# Altium schematic symbol library Interface.SchLib: 16 symbols
Pins are listed as number, name and electrical type; pins without a type are passive.

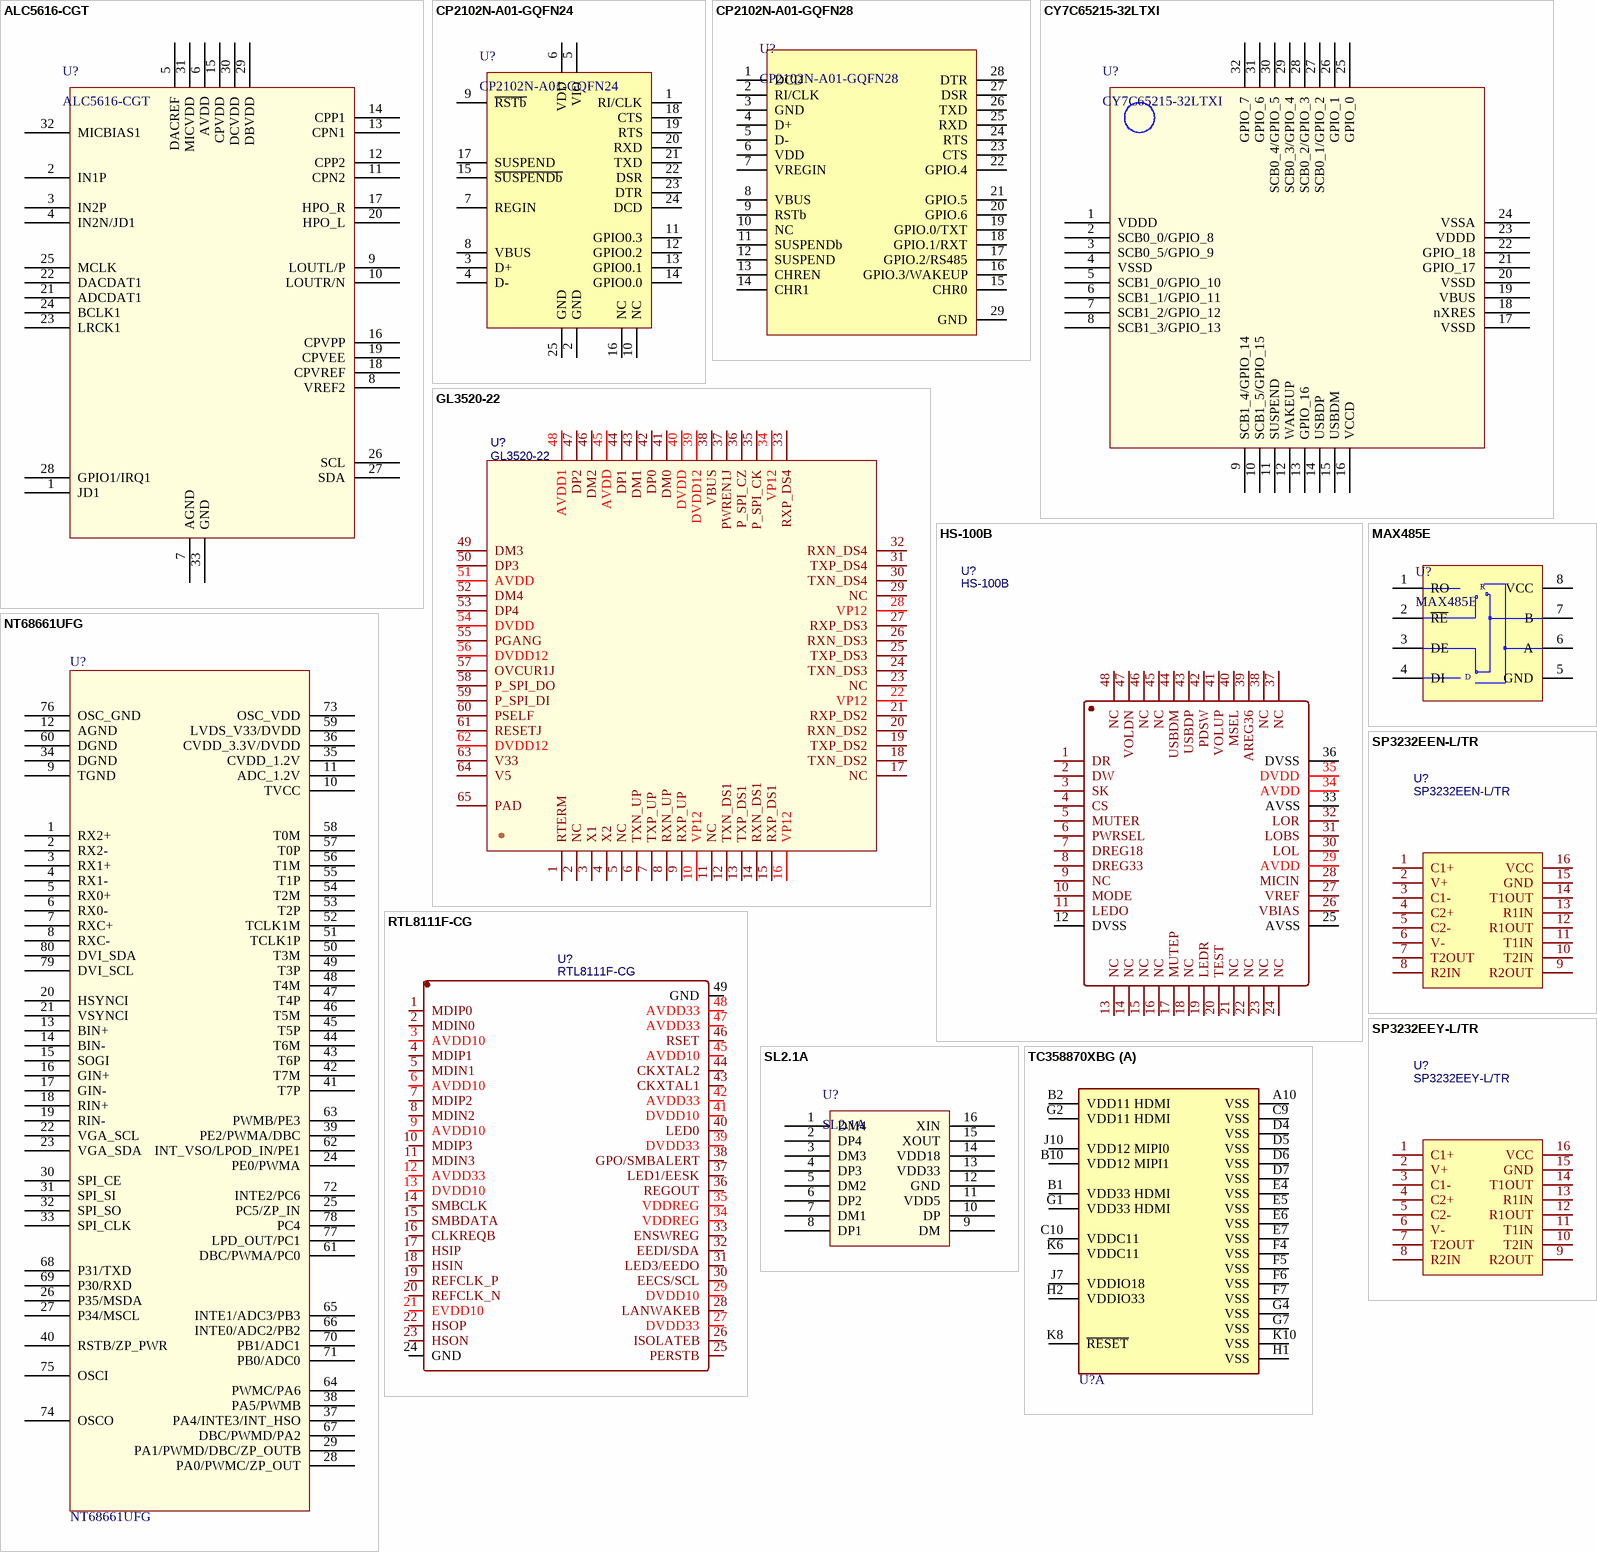
[diagram p0: symbols ALC5616-CGT to TC358870XBG]

## ALC5616-CGT
designator U?
footprint QFN-32-1EP_4x4mm_P0.4mm_EP2.7x2.7mm_ThermalVias (QFN, 32-Leads, Body 4.00x4.00mm, Pitch 0.40mm, Thermal Pad 2.70x2.70mm, IPC Low Density)
pins: 1 JD1, 2 IN1P, 3 IN2P, 4 IN2N/JD1, 5 DACREF, 6 AVDD, 7 AGND, 8 VREF2, 9 LOUTL/P, 10 LOUTR/N, 11 CPN2, 12 CPP2, 13 CPN1, 14 CPP1, 15 CPVDD, 16 CPVPP, 17 HPO_R, 18 CPVREF, 19 CPVEE, 20 HPO_L, 21 ADCDAT1, 22 DACDAT1, 23 LRCK1, 24 BCLK1, 25 MCLK, 26 SCL, 27 SDA, 28 GPIO1/IRQ1, 29 DBVDD, 30 DCVDD, 31 MICVDD, 32 MICBIAS1, 33 GND

## CP2102N-A01-GQFN24
designator U?
USB to UART master bridge, QFN-24
footprint QFN-24-1EP_4x4_P0.5mm_EP2.45x2.45mm (QFN, 24-Leads, Body 4.00x4.00mm, Pitch 0.50mm, Thermal Pad 2.45x2.45mm, IPC Low Density)
pins: 1 RI/CLK, 2 GND, 3 D+, 4 D-, 5 VIO, 6 VDD, 7 REGIN, 8 VBUS, 9 ~{RSTb}, 10 NC, 11 GPIO0.3, 12 GPIO0.2, 13 GPIO0.1, 14 GPIO0.0, 15 ~{SUSPENDb}, 16 NC, 17 SUSPEND, 18 CTS, 19 RTS, 20 RXD, 21 TXD, 22 DSR, 23 DTR, 24 DCD, 25 GND

## CP2102N-A01-GQFN28
designator U?
USB to UART master bridge, QFN-28
footprint QFN-28-1EP_5x5mm_P0.5mm_EP3.35x3.35mm (QFN, 28-Leads, Body 5.00x5.00mm, Pitch 0.50mm, Thermal Pad 3.25x3.25mm, IPC Low Density)
pins: 1 DCD, 2 RI/CLK, 3 GND, 4 D+, 5 D-, 6 VDD, 7 VREGIN, 8 VBUS, 9 RSTb, 10 NC, 11 SUSPENDb, 12 SUSPEND, 13 CHREN, 14 CHR1, 15 CHR0, 16 GPIO.3/WAKEUP, 17 GPIO.2/RS485, 18 GPIO.1/RXT, 19 GPIO.0/TXT, 20 GPIO.6, 21 GPIO.5, 22 GPIO.4, 23 CTS, 24 RTS, 25 RXD, 26 TXD, 27 DSR, 28 DTR, 29 GND

## CY7C65215-32LTXI
designator U?
带有 CapSense® 和 BCD 的双通道串行 USB （UART/I2C/SPI）桥接器
footprint QFN-32-1EP_5x5mm_P0.5mm_EP3.5x3.5mm_ThermalVia (QFN, 32-Leads, Body 5.00x5.00mm, Pitch 0.50mm, Thermal Pad 3.50x3.50mm, IPC Medium Density)
pins: 1 VDDD, 2 SCB0_0/GPIO_8, 3 SCB0_5/GPIO_9, 4 VSSD, 5 SCB1_0/GPIO_10, 6 SCB1_1/GPIO_11, 7 SCB1_2/GPIO_12, 8 SCB1_3/GPIO_13, 9 SCB1_4/GPIO_14, 10 SCB1_5/GPIO_15, 11 SUSPEND, 12 WAKEUP, 13 GPIO_16, 14 USBDP, 15 USBDM, 16 VCCD, 17 VSSD, 18 nXRES, 19 VBUS, 20 VSSD, 21 GPIO_17, 22 GPIO_18, 23 VDDD, 24 VSSA, 25 GPIO_0, 26 GPIO_1, 27 SCB0_1/GPIO_2, 28 SCB0_2/GPIO_3, 29 SCB0_3/GPIO_4, 30 SCB0_4/GPIO_5, 31 GPIO_6, 32 GPIO_7

## GL3520-22
designator U?
BOM_Manufacturer: GENESYS; BOM_Supplier: LCSC; BOM_Manufacturer Part: GL3520-22; BOM_Supplier Part: C112549; BOM_JLCPCB Part Class: Extended Part; spicePre: U; spiceSymbolName: GL3520-22
footprint QFN-64_L8.0-W8.0-P0.40-BL-EP
pins: 1 RTERM, 2 NC, 3 X1, 4 X2, 5 NC, 6 TXN_UP, 7 TXP_UP, 8 RXN_UP, 9 RXP_UP, 10 VP12, 11 NC, 12 TXN_DS1, 13 TXP_DS1, 14 RXN_DS1, 15 RXP_DS1, 16 VP12, 17 NC, 18 TXN_DS2, 19 TXP_DS2, 20 RXN_DS2, 21 RXP_DS2, 22 VP12, 23 NC, 24 TXN_DS3, 25 TXP_DS3, 26 RXN_DS3, 27 RXP_DS3, 28 VP12, 29 NC, 30 TXN_DS4, 31 TXP_DS4, 32 RXN_DS4, 33 RXP_DS4, 34 VP12, 35 P_SPI_CK, 36 P_SPI_CZ, 37 PWREN1J, 38 VBUS, 39 DVDD12, 40 DVDD, 41 DM0, 42 DP0, 43 DM1, 44 DP1, 45 AVDD, 46 DM2, 47 DP2, 48 AVDD1, 49 DM3, 50 DP3, 51 AVDD, 52 DM4, 53 DP4, 54 DVDD, 55 PGANG, 56 DVDD12, 57 OVCUR1J, 58 P_SPI_DO, 59 P_SPI_DI, 60 PSELF, 61 RESETJ, 62 DVDD12, 63 V33, 64 V5, 65 PAD

## HS-100B
designator U?
BOM_Manufacturer: Cmedia; Contributor: LCSC; BOM_Supplier: LCSC; BOM_Supplier Part: C371351; BOM_Manufacturer Part: HS-100B; BOM_JLCPCB Part Class: Extended Part; spicePre: U; spiceSymbolName: HS-100B
footprint LQFP-48_7x7mm_P0.5mm (TSQFP, 48-Leads, Body 7.00x7.00mm, Pitch 0.50mm, IPC Medium Density)
pins: 1 DR, 2 DW, 3 SK, 4 CS, 5 MUTER, 6 PWRSEL, 7 DREG18, 8 DREG33, 9 NC, 10 MODE, 11 LEDO, 12 DVSS, 13 NC, 14 NC, 15 NC, 16 NC, 17 MUTEP, 18 NC, 19 LEDR, 20 TEST, 21 NC, 22 NC, 23 NC, 24 NC, 25 AVSS, 26 VBIAS, 27 VREF, 28 MICIN, 29 AVDD, 30 LOL, 31 LOBS, 32 LOR, 33 AVSS, 34 AVDD, 35 DVDD, 36 DVSS, 37 NC, 38 NC, 39 AREG36, 40 MSEL, 41 VOLUP, 42 PDSW, 43 USBDP, 44 USBDM, 45 NC, 46 NC, 47 VOLDN, 48 NC

## MAX485E
designator U?
Half duplex RS-485/RS-422, 2.5 Mbps, ±15kV electro-static discharge (ESD) protection, no slew-rate, with low-power shutdown, with receiver/driver enable, 32 receiver drive kapacitity, DIP-8 and SOIC-8
footprint SO-8_3.9x4.9mm_P1.27mm (SOIC, 8-Leads, Body 4.9x3.90mm, Pitch 1.27mm, IPC Medium Density)
pins: 1 RO, 2 ~{RE}, 3 DE, 4 DI, 5 GND (power), 6 A, 7 B, 8 VCC (power)
text: R; D

## NT68661UFG
designator U?
HDMI to LVDS converter
footprint QFP127P600-8N
pins: 1 RX2+, 2 RX2-, 3 RX1+, 4 RX1-, 5 RX0+, 6 RX0-, 7 RXC+, 8 RXC-, 9 TGND, 10 TVCC, 11 ADC_1.2V, 12 AGND, 13 BIN+, 14 BIN-, 15 SOGI, 16 GIN+, 17 GIN-, 18 RIN+, 19 RIN-, 20 HSYNCI, 21 VSYNCI, 22 VGA_SCL, 23 VGA_SDA, 24 PE0/PWMA, 25 PC5/ZP_IN, 26 P35/MSDA, 27 P34/MSCL, 28 PA0/PWMC/ZP_OUT, 29 PA1/PWMD/DBC/ZP_OUTB, 30 SPI_CE, 31 SPI_SI, 32 SPI_SO, 33 SPI_CLK, 34 DGND, 35 CVDD_1.2V, 36 CVDD_3.3V/DVDD, 37 PA4/INTE3/INT_HSO, 38 PA5/PWMB, 39 PE2/PWMA/DBC, 40 RSTB/ZP_PWR, 41 T7P, 42 T7M, 43 T6P, 44 T6M, 45 T5P, 46 T5M, 47 T4P, 48 T4M, 49 T3P, 50 T3M, 51 TCLK1P, 52 TCLK1M, 53 T2P, 54 T2M, 55 T1P, 56 T1M, 57 T0P, 58 T0M, 59 LVDS_V33/DVDD, 60 DGND, 61 DBC/PWMA/PC0, 62 INT_VSO/LPOD_IN/PE1, 63 PWMB/PE3, 64 PWMC/PA6, 65 INTE1/ADC3/PB3, 66 INTE0/ADC2/PB2, 67 DBC/PWMD/PA2, 68 P31/TXD, 69 P30/RXD, 70 PB1/ADC1, 71 PB0/ADC0, 72 INTE2/PC6, 73 OSC_VDD, 74 OSCO, 75 OSCI, 76 OSC_GND, 77 LPD_OUT/PC1, 78 PC4, 79 DVI_SCL, 80 DVI_SDA

## RTL8111F-CG
designator U?
BOM_Manufacturer: Realtek Semicon; Contributor: LCSC; BOM_Supplier: LCSC; BOM_Supplier Part: C220087; BOM_Manufacturer Part: RTL8111F-CG; BOM_JLCPCB Part Class: Extended Part; spicePre: U; spiceSymbolName: RTL8111F-CG
footprint QFN-48-1EP_6x6mm_P0.4mm_EP3.8x3.8mm_ThermalVias (QFN, 48-Leads, Body 6.00x6.00mm, Pitch 0.40mm, Thermal Pad 3.80x3.80mm, IPC Medium Density)
pins: 1 MDIP0, 2 MDIN0, 3 AVDD10, 4 MDIP1, 5 MDIN1, 6 AVDD10, 7 MDIP2, 8 MDIN2, 9 AVDD10, 10 MDIP3, 11 MDIN3, 12 AVDD33, 13 DVDD10, 14 SMBCLK, 15 SMBDATA, 16 CLKREQB, 17 HSIP, 18 HSIN, 19 REFCLK_P, 20 REFCLK_N, 21 EVDD10, 22 HSOP, 23 HSON, 24 GND, 25 PERSTB, 26 ISOLATEB, 27 DVDD33, 28 LANWAKEB, 29 DVDD10, 30 EECS/SCL, 31 LED3/EEDO, 32 EEDI/SDA, 33 ENSWREG, 34 VDDREG, 35 VDDREG, 36 REGOUT, 37 LED1/EESK, 38 GPO/SMBALERT, 39 DVDD33, 40 LED0, 41 DVDD10, 42 AVDD33, 43 CKXTAL1, 44 CKXTAL2, 45 AVDD10, 46 RSET, 47 AVDD33, 48 AVDD33, 49 GND

## SL2.1A
designator U?
USB2.0 HUB 控制器集成电路
footprint SO-16_3.9mm_P1.27mm (SOIC, 16-Leads, Body 9.90x3.90mm, Pitch 1.27mm, IPC Medium Density)
pins: 1 DM4, 2 DP4, 3 DM3, 4 DP3, 5 DM2, 6 DP2, 7 DM1, 8 DP1, 9 DM, 10 DP, 11 VDD5, 12 GND, 13 VDD33, 14 VDD18, 15 XOUT, 16 XIN

## SP3232EEN-L/TR
designator U?
BOM_Manufacturer: EXAR; BOM_Supplier: LCSC; BOM_Manufacturer Part: SP3232EEN-L/TR; BOM_Supplier Part: C9378; BOM_JLCPCB Part Class: Extended Part; spicePre: U; spiceSymbolName: SP3232EEN-L/TR
footprint SO-16_3.9mm_P1.27mm (SOIC, 16-Leads, Body 9.90x3.90mm, Pitch 1.27mm, IPC Medium Density)
pins: 1 C1+, 2 V+, 3 C1-, 4 C2+, 5 C2-, 6 V-, 7 T2OUT, 8 R2IN, 9 R2OUT, 10 T2IN, 11 T1IN, 12 R1OUT, 13 R1IN, 14 T1OUT, 15 GND, 16 VCC

## SP3232EEY-L/TR
designator U?
BOM_Manufacturer: EXAR; BOM_Manufacturer Part: SP3232EEN-L/TR; BOM_Supplier: LCSC; BOM_Supplier Part: C9378; BOM_JLCPCB Part Class: Extended Part; spicePre: U; spiceSymbolName: SP3232EEN-L/TR
footprint SSOP-16_4.4x5mm_P0.65 (TSOP, 16-Leads, Body 5.00x4.40mm, Pitch 0.65mm, Thermal Pad 3.30x3.30mm, IPC Medium Density)
pins: 1 C1+, 2 V+, 3 C1-, 4 C2+, 5 C2-, 6 V-, 7 T2OUT, 8 R2IN, 9 R2OUT, 10 T2IN, 11 T1IN, 12 R1OUT, 13 R1IN, 14 T1OUT, 15 GND, 16 VCC

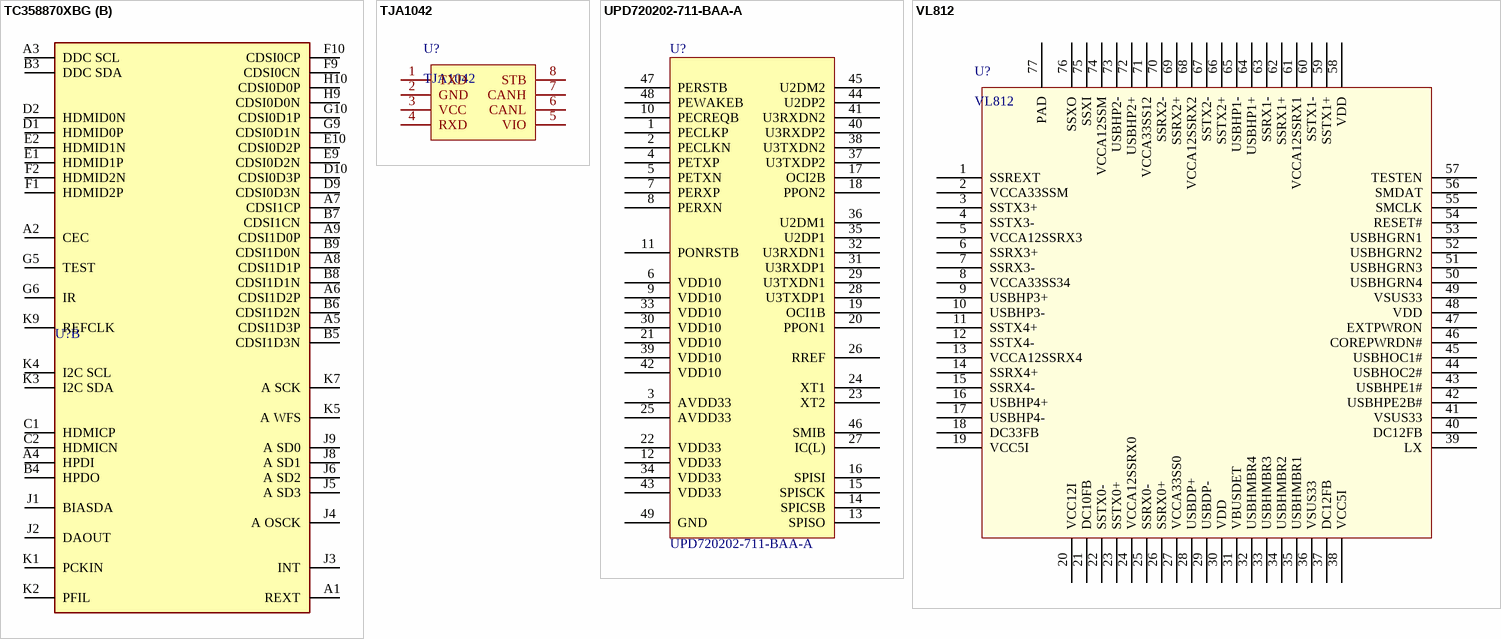
[diagram p1: symbols TC358870XBG to VL812]

## TC358870XBG
designator U?  (value not drawn)
footprint BGA_7x7mm_P0.65mm_80P (BGA, 80-Leads, Body 7.00x7.00mmx1.00mm, Pitch 0.65mm)
part A pins: A10 VSS, B1 VDD33 HDMI, B2 VDD11 HDMI, B10 VDD12 MIPI1, C9 VSS, C10 VDDC11, D4 VSS, D5 VSS, D6 VSS, D7 VSS, E4 VSS, E5 VSS, E6 VSS, E7 VSS, F4 VSS, F5 VSS, F6 VSS, F7 VSS, G1 VDD33 HDMI, G2 VDD11 HDMI, G4 VSS, G7 VSS, H1 VSS, H2 VDDIO33, J7 VDDIO18, J10 VDD12 MIPI0, K6 VDDC11, K8 ~{RESET}, K10 VSS
part B pins: A1 REXT, A2 CEC, A3 DDC SCL, A4 HPDI, A5 CDSI1D3P, A6 CDSI1D2P, A7 CDSI1CP, A8 CDSI1D1P, A9 CDSI1D0P, B3 DDC SDA, B4 HPDO, B5 CDSI1D3N, B6 CDSI1D2N, B7 CDSI1CN, B8 CDSI1D1N, B9 CDSI1D0N, C1 HDMICP, C2 HDMICN, D1 HDMID0P, D2 HDMID0N, D9 CDSI0D3N, D10 CDSI0D3P, E1 HDMID1P, E2 HDMID1N, E9 CDSI0D2N, E10 CDSI0D2P, F1 HDMID2P, F2 HDMID2N, F9 CDSI0CN, F10 CDSI0CP, G5 TEST, G6 IR, G9 CDSI0D1N, G10 CDSI0D1P, H9 CDSI0D0N, H10 CDSI0D0P, J1 BIASDA, J2 DAOUT, J3 INT, J4 A OSCK, J5 A SD3, J6 A SD2, J8 A SD1, J9 A SD0, K1 PCKIN, K2 PFIL, K3 I2C SDA, K4 I2C SCL, K5 A WFS, K7 A SCK, K9 REFCLK

## TJA1042
designator U?
High-speed CAN transceiver with Standby mode
footprint SO-8_3.9x4.9mm_P1.27mm (SOIC, 8-Leads, Body 4.9x3.90mm, Pitch 1.27mm, IPC Medium Density)
pins: 1 TXD, 2 GND, 3 VCC, 4 RXD, 5 VIO, 6 CANL, 7 CANH, 8 STB

## UPD720202-711-BAA-A
designator U?
PCIE2USB3
footprint QFN-48-1EP_7x7mm_P0.5mm_EP5.7x5.7mm_ThermalVias (QFN, 48-Leads, Body 7.00x7.00mm, Pitch 0.50mm, Thermal Pad 5.70x5.70mm, IPC Low Density)
pins: 1 PECLKP, 2 PECLKN, 3 AVDD33, 4 PETXP, 5 PETXN, 6 VDD10, 7 PERXP, 8 PERXN, 9 VDD10, 10 PECREQB, 11 PONRSTB, 12 VDD33, 13 SPISO, 14 SPICSB, 15 SPISCK, 16 SPISI, 17 OCI2B, 18 PPON2, 19 OCI1B, 20 PPON1, 21 VDD10, 22 VDD33, 23 XT2, 24 XT1, 25 AVDD33, 26 RREF, 27 IC(L), 28 U3TXDP1, 29 U3TXDN1, 30 VDD10, 31 U3RXDP1, 32 U3RXDN1, 33 VDD10, 34 VDD33, 35 U2DP1, 36 U2DM1, 37 U3TXDP2, 38 U3TXDN2, 39 VDD10, 40 U3RXDP2, 41 U3RXDN2, 42 VDD10, 43 VDD33, 44 U2DP2, 45 U2DM2, 46 SMIB, 47 PERSTB, 48 PEWAKEB, 49 GND

## VL812
designator U?
Value: VL812
footprint QFN-76-1EP_9x9mm_P0.4mm_EP6.3x6.3mm_ThermalVias (QFN, 76-Leads, Body 9.00x9.00mm, Pitch 0.40mm, Thermal Pad 6.30x6.30mm, IPC Low Density)
pins: 1 SSREXT, 2 VCCA33SSM, 3 SSTX3+, 4 SSTX3-, 5 VCCA12SSRX3, 6 SSRX3+, 7 SSRX3-, 8 VCCA33SS34, 9 USBHP3+, 10 USBHP3-, 11 SSTX4+, 12 SSTX4-, 13 VCCA12SSRX4, 14 SSRX4+, 15 SSRX4-, 16 USBHP4+, 17 USBHP4-, 18 DC33FB, 19 VCC5I, 20 VCC12I, 21 DC10FB, 22 SSTX0-, 23 SSTX0+, 24 VCCA12SSRX0, 25 SSRX0-, 26 SSRX0+, 27 VCCA33SS0, 28 USBDP+, 29 USBDP-, 30 VDD, 31 VBUSDET, 32 USBHMBR4, 33 USBHMBR3, 34 USBHMBR2, 35 USBHMBR1, 36 VSUS33, 37 DC12FB, 38 VCC5I, 39 LX, 40 DC12FB, 41 VSUS33, 42 USBHPE2B#, 43 USBHPE1#, 44 USBHOC2#, 45 USBHOC1#, 46 COREPWRDN#, 47 EXTPWRON, 48 VDD, 49 VSUS33, 50 USBHGRN4, 51 USBHGRN3, 52 USBHGRN2, 53 USBHGRN1, 54 RESET#, 55 SMCLK, 56 SMDAT, 57 TESTEN, 58 VDD, 59 SSTX1+, 60 SSTX1-, 61 VCCA12SSRX1, 62 SSRX1+, 63 SSRX1-, 64 USBHP1+, 65 USBHP1-, 66 SSTX2+, 67 SSTX2-, 68 VCCA12SSRX2, 69 SSRX2+, 70 SSRX2-, 71 VCCA33SS12, 72 USBHP2+, 73 USBHP2-, 74 VCCA12SSM, 75 SSXI, 76 SSXO, 77 PAD